# EAGLE library part USBLC6-2 (library USBLC6-2)
USBLC6-2 Check availability <https://pricing.snapeda.com/parts/USBLC6-2/STMicroelectronics/view-part?ref=eda>
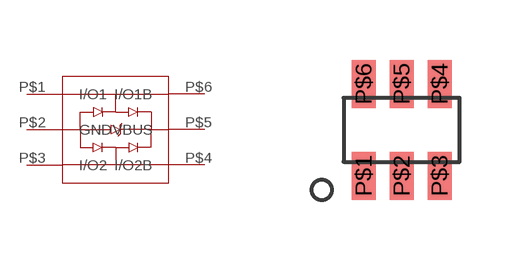
[diagram p0: symbol with the pads of SOT-23-6L; footprint SOT-23-6L]

Designator prefix D

## USBLC6-2 (Availability: In Stock; Description: 17V Clamp 5A (8/20µs) Ipp Tvs Diode Surface Mount SOT-23-6; MF: STMicroelectronics; MP: USBLC6-2; Package: SOT-563 STMicroelectronics; Price: None; Purchase-URL: https://pricing.snapeda.com/search/part/USBLC6-2/?ref=eda)  [SOT-23-6L]
P$1  I/O1
P$2  GND
P$3  I/O2
P$4  I/O2B
P$5  VBUS
P$6  I/O1B

## Footprint SOT-23-6L (pad centres in mm)
SOT23-6L 6 pins
smd 0.6 x 1.2: P$1 -0.95,-1.15; P$2 0,-1.15; P$3 0.95,-1.15; P$4 0.95,1.15; P$5 0,1.15; P$6 -0.95,1.15